# Altium footprint library G3MB-202P.PcbLib: 1 footprints
Each footprint in its own frame and in the unit in brackets; x right, y up, seen from the top. Pads: shape width x height; smd on the part's side, far side on the other; paste and mask are expansions set on the pad; w line width, h text height; cw(c..) or ccw(c..) is an arc to the next point about the centre after c.
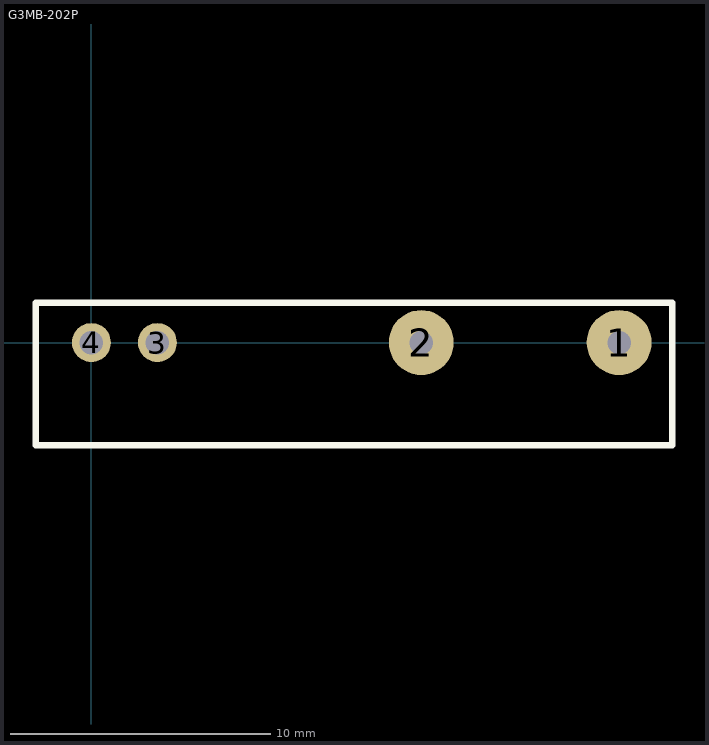
[diagram p0: the footprint, top view; thin cyan lines are the x and y axes]

## G3MB-202P [mm]
height 20.5
pads (4):
  round 2.5 hole 0.9: 1(20.32,0) 2(12.7,0)
  round 1.5 hole 0.9: 3(2.54,0) 4(0,0)
Top Overlay:
  lines w0.254: -2.14,-3.96 -2.14,1.54 22.36,1.54 22.36,-3.96 -2.14,-3.96
3D body: height 20.5, standoff 0, extent -2.1,-3.9 22.3,1.5